# EAGLE library part 38720-6306 (library Molex)
6-Position PCB Mount Barrier Block Series: 38720 14-22AWG 15A 300V From Molex Drawing SO-38720-002, Rev A
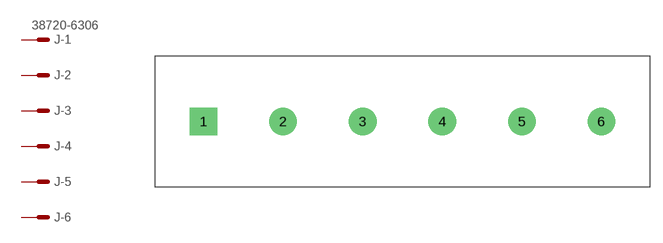
[diagram p1: symbol with the pads of BARRIERBLOCK_PCB6; footprint BARRIERBLOCK_PCB6]

Designator prefix J; gates -1=MV -2=M -3=M -4=M -5=M -6=M

## 38720-6306  [BARRIERBLOCK_PCB6]
1  -1:S  pas
2  -2:S  pas
3  -3:S  pas
4  -4:S  pas
5  -5:S  pas
6  -6:S  pas

## Footprint BARRIERBLOCK_PCB6 (pad centres in mm)
drill 1.778 pad 3.302 square: 1 -23.812,0
drill 1.778 pad 3.302: 2 -14.287,0; 3 -4.763,0; 4 4.763,0; 5 14.287,0; 6 23.812,0